# Altium footprint library DWM1000Breakout.PcbLib: 5 footprints
Each footprint in its own frame and in the unit in brackets; x right, y up, seen from the top. Pads: shape width x height; smd on the part's side, far side on the other; paste and mask are expansions set on the pad; w line width, h text height; cw(c..) or ccw(c..) is an arc to the next point about the centre after c.
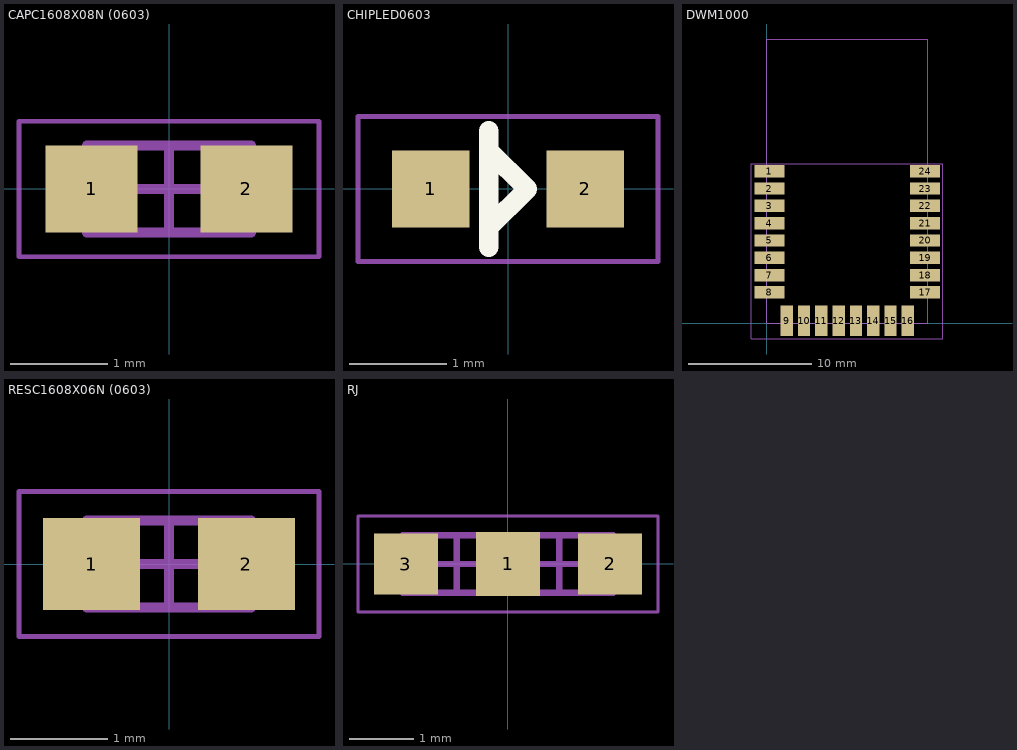
[diagram p0: the footprints below, top view; thin cyan lines are the x and y axes]

## CAPC1608X08N (0603) [mm] "Chip Capacitor, 2-Leads, Body 1.60x0.80mm, IPC Medium Density"
height 0.8
pads (2):
  rect 0.95x0.9 smd: 1(-0.8,0) 2(0.8,0)
Mechanical 13:
  lines w0.1: -0.85,-0.45 0.85,-0.45 0.85,0.45 -0.85,0.45 -0.85,-0.45
Mechanical 15:
  lines w0.05: -1.55,-0.7 1.55,-0.7 1.55,0.7 -1.55,0.7 -1.55,-0.7
  lines w0.1: -0.45,0 0.45,0 ; 0,-0.45 0,0.45
3D body: height 0.8, standoff 0, extent 0.5,-0.45 0.85,0.45
3D body: height 0.8, standoff 0, extent -0.85,-0.45 -0.5,0.45
3D body: height 0.8, standoff 0, extent -0.5,-0.45 0.5,0.45

## CHIPLED0603 [mm]
height 0.5
pads (2):
  rect 0.8x0.8 smd: 1(-0.8,0) 2(0.8,0)
Top Overlay:
  lines w0.203: -0.2,-0.6 -0.2,0.6 ; -0.2,-0.4 0.2,0 -0.2,0.4
Mechanical 15:
  lines w0.05: -1.55,-0.75 -1.55,0.75 1.55,0.75 1.55,-0.75 -1.55,-0.75
3D body: height 0.6, standoff 0, extent -0.81,-0.4 0.81,0.4

## DWM1000 [mm]
pads (24):
  rect 2.45x1 smd: 1(0.205,12.3) 2(0.205,10.9) 3(0.205,9.5) 4(0.205,8.1) 5(0.205,6.7) 6(0.205,5.3) 7(0.205,3.9) 8(0.205,2.5) 17(12.795,2.5) 18(12.795,3.9) 19(12.795,5.3) 20(12.795,6.7) 21(12.795,8.1) 22(12.795,9.5) 23(12.795,10.9) 24(12.795,12.3)
  rect 1x2.45 smd: 9(1.6,0.205) 10(3,0.205) 11(4.4,0.205) 12(5.8,0.205) 13(7.2,0.205) 14(8.6,0.205) 15(10,0.205) 16(11.4,0.205)
Mechanical 13:
  lines w0.05: 0,0 0,23 13,23 13,0 0,0
Mechanical 15:
  lines w0.05: -1.27,-1.27 14.224,-1.27 14.224,12.925 -1.27,12.925 -1.27,-1.27
3D body: height 2.9, standoff -0.01, extent 0,-0.013 13,22.987

## RESC1608X06N (0603) [mm] "Chip Resistor, 2-Leads, Body 1.60x0.80mm, IPC Medium Density"
height 0.55
pads (2):
  rect 1x0.95 smd: 1(-0.8,0) 2(0.8,0)
Mechanical 13:
  lines w0.1: -0.85,-0.45 -0.85,0.45 0.85,0.45 0.85,-0.45 -0.85,-0.45
Mechanical 15:
  lines w0.05: -1.55,-0.75 -1.55,0.75 1.55,0.75 1.55,-0.75 -1.55,-0.75
  lines w0.1: -0.45,0 0.45,0 ; 0,-0.45 0,0.45
3D body: height 0.55, standoff 0, extent -0.55,-0.45 0.55,0.45
3D body: height 0.55, standoff 0, extent -0.85,-0.45 -0.55,0.45
3D body: height 0.55, standoff 0, extent 0.55,-0.45 0.85,0.45

## RJ [mm] "0 Ohm Resistor Jumper"
pads (3):
  rect 1x1 smd: 1(0,0)
  rect 1x0.95 smd: 2(1.6,0) 3(-1.6,0)
Mechanical 13:
  lines w0.1: -1.65,-0.45 -1.65,0.45 0.05,0.45 0.05,-0.45 -1.65,-0.45 ; -0.05,-0.45 1.65,-0.45 1.65,0.45 -0.05,0.45 -0.05,-0.45
Mechanical 15:
  lines w0.05: -2.35,-0.75 -2.35,0.75 2.35,0.75 2.35,-0.75 -2.35,-0.75
  lines w0.1: -1.25,0 -0.35,0 ; -0.8,-0.45 -0.8,0.45 ; 0.35,0 1.25,0 ; 0.8,-0.45 0.8,0.45
3D body: height 0.55, standoff 0, extent 1.35,-0.45 1.65,0.45
3D body: height 0.55, standoff 0, extent -0.05,-0.45 0.25,0.45
3D body: height 0.55, standoff 0, extent 0.25,-0.45 1.35,0.45